# Altium footprint library PCB - DIODES - SOD-80 MiniMELF.PCBLIB: 1 footprints
Each footprint in its own frame and in the unit in brackets; x right, y up, seen from the top. Pads: shape width x height; smd on the part's side, far side on the other; paste and mask are expansions set on the pad; w line width, h text height; cw(c..) or ccw(c..) is an arc to the next point about the centre after c.
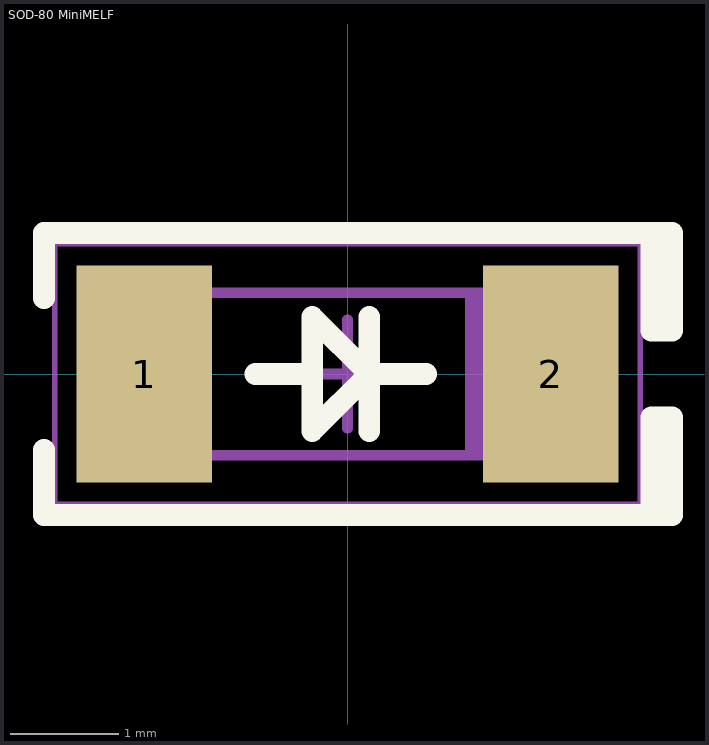
[diagram p0: the footprint, top view; thin cyan lines are the x and y axes]

## SOD-80 MiniMELF [mm] "Molded Diode, 2-Leads, Body 3.40x1.50mm, IPC Medium Density"
height 1.5
pads (2):
  rect 1.25x2 smd: 1(-1.875,0) 2(1.875,0)
Top Overlay:
  lines w0.2: -2.8,-0.7 -2.8,-1.3 2.994,-1.3 2.994,-0.4 2.8,-0.4 2.8,-1.2 ; -2.8,0.7 -2.8,1.3 2.994,1.3 2.994,0.4 2.8,0.4 2.8,1.2 ; -0.85,0 -0.325,0 ; 0.2,-0.525 0.2,0.525 ; 0.725,0 0.2,0 ; 0.2,0 -0.325,-0.525 -0.325,0.525 0.2,0
Mechanical 13:
  rectangle: 1.081,-0.75 1.7,0.75
  lines w0.1: -1.7,-0.75 -1.7,0.75 1.7,0.75 1.7,-0.75 -1.7,-0.75
Mechanical 15:
  lines w0.05: -2.7,-1.2 2.7,-1.2 2.7,1.2 -2.7,1.2 -2.7,-1.2
  lines w0.1: -0.5,0 0.5,0 ; 0,-0.5 0,0.5
3D body "SOD-80 MiniMELF.step": height 1.5, standoff 0, extent -1.7,-0.751 1.7,0.751